# EAGLE library part BLE121LR (library jetney-silabs-modules)
Bluetooth Low Energy single-mode long-range module - Bluetooth 4.0 (CC2541). BLE121LR-A variant has an on-module ceramic chip antenna. BLE121LR-A variant includes keepout/restrict area. Antenna edge of the module should be flush up against the edge of the PCB. See datasheet for variant layout details. IT IS EXTREMELY IMPORTANT THAT YOU FOLLOW THE LAYOUT GUIDELINES FOR THIS MODULE IN ORDER TO ENSURE MAXIMUM RANGE. THIS MEANS THAT YOU NEED A SOLID GROUND PLANE EXTENDING AT LEAST 17 mm ON THE LEFT AND RIGHT SIDES OF THE MODULE, AS SHOWN IN THE DATASHEET. BLE121LR is a Bluetooth Smart Long Range module targeted for Bluetooth Smart applications where the best possible RF performance and range are required. At +8 dBm TX power and -98 dBm sensitivity BLE121LR has best-in-class RF performance and can provide Bluetooth Smart connectivity up to 450 meters. BLE121LR integrates all features required for a Bluetooth Smart application: Bluetooth radio, software stack and GATT based profiles. and it can also host end user applications, which means no external micro controller is required in size, price or power constrained devices. BLE121LR Bluetooth Smart module also has flexible hardware interfaces to connect to different peripherals or sensors. Although BLE121LR Bluetooth Smart Long Range Module is target for applications requiring high RF performance, it is still has relatively low power consumption and can be power using a standard 3V coin cell batteries. https://www.bluegiga.com/en-US/products/bluetooth-4.0-modules/ble121lr-bluetooth--smart-long https://github.com/jrowberg/sf-oshw Last updated 2014-08-02 by Jeff Rowberg <jeff@rowberg.net>
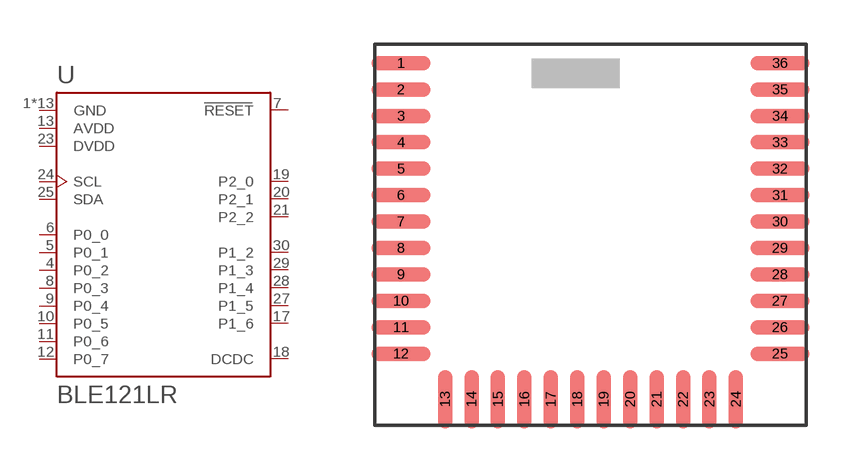
[diagram p21: symbol with the pads of BLE121LR-A; footprint BLE121LR-A]

Designator prefix U

## BLE121LR-A (ANTENNA: On-module ceramic chip antenna)  [BLE121LR-A]
1  GND  pwr
2  GND  pwr
3  GND  pwr
4  P0_2
5  P0_1
6  P0_0
7  RESET  in
8  P0_3
9  P0_4
10  P0_5
11  P0_6
12  P0_7
13  AVDD  pwr
14  GND  pwr
15  GND  pwr
16  GND  pwr
17  P1_6
18  DCDC
19  P2_0
20  P2_1
21  P2_2
22  GND  pwr
23  DVDD  pwr
24  SCL
25  SDA
27  P1_5
28  P1_4
29  P1_3
30  P1_2
31  GND  pwr
32  GND  pwr
33  GND  pwr
34  GND  pwr
35  GND  pwr
36  GND  pwr

## Footprint BLE121LR-A (pad centres in mm)
BLE121LR-A Bluetooth Smart Long Range Module package PCB LAYOUT NOTE: The BLE121LR-A variant has an on-module ceramic chip antenna, and the package includes required keepout/restrict area. The antenna edge of the module should be flush up against the edge of the PCB. See datasheet for variant layout details. IT IS EXTREMELY IMPORTANT THAT YOU FOLLOW THE LAYOUT GUIDELINES FOR THIS MODULE IN ORDER TO ENSURE MAXIMUM RANGE. THIS MEANS THAT YOU NEED A SOLID GROUND PLANE EXTENDING AT LEAST 17 mm ON THE LEFT AND RIGHT SIDES OF THE MODULE, AS SHOWN IN THE DATASHEET. Source: http://www.silabs.com/products/wireless/bluetooth/bluetooth-smart-modules/pages/ble121lr-bluetooth-smart-long-range-module.aspx EAGLE package created by Jeff Rowberg for Jetney Development at https://www.jetney.com Latest version maintained at https://github.com/jetney/jetney-eagle-libraries (jetney-silabs-modules.lbr) Last updated 2016-11-21
smd 2 x 0.5: 1 -6.45,5.85; 2 -6.45,4.95; 3 -6.45,4.05; 4 -6.45,3.15; 5 -6.45,2.25; 6 -6.45,1.35; 7 -6.45,0.45; 8 -6.45,-0.45; 9 -6.45,-1.35; 10 -6.45,-2.25; 11 -6.45,-3.15; 12 -6.45,-4.05; 25 6.45,-4.05; 26 6.45,-3.15; 27 6.45,-2.25; 28 6.45,-1.35; 29 6.45,-0.45; 30 6.45,0.45; 31 6.45,1.35; 32 6.45,2.25; 33 6.45,3.15; 34 6.45,4.05; 35 6.45,4.95; 36 6.45,5.85
smd 0.5 x 2: 13 -4.95,-5.6; 14 -4.05,-5.6; 15 -3.15,-5.6; 16 -2.25,-5.6; 17 -1.35,-5.6; 18 -0.45,-5.6; 19 0.45,-5.6; 20 1.35,-5.6; 21 2.25,-5.6; 22 3.15,-5.6; 23 4.05,-5.6; 24 4.95,-5.6